# Altium schematic symbol library NC7SV17P5X.SchLib: 1 symbol
Pins are listed as number, name and electrical type; pins without a type are passive.

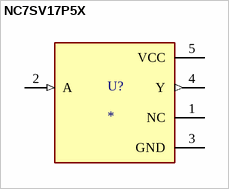
[diagram p0: symbol NC7SV17P5X]

## NC7SV17P5X
designator U?
Buffer, Non-Inverting 1 Element 1 Bit per Element Push-Pull Output SC-70-5; MF: {'manufacturer': u'ON Semiconductor'}; MP: NC7SV17P5X; Package: None; Price: None; Value: *; Availability: Unavailable
footprint SOT65P210X110-5N
pins: 1 NC, 2 A (in), 3 GND (power), 4 Y (out), 5 VCC (power)